# Altium schematic symbol library 6N137S(TA).Schlib: 1 symbol
Pins are listed as number, name and electrical type; pins without a type are passive.

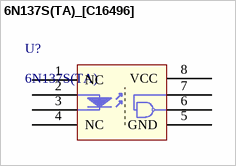
[diagram p0: symbol 6N137S(TA)_[C16496]]

## 6N137S(TA)_[C16496]
designator U?, comment 6N137S(TA)
贴片光耦
footprint SMD-8_6.3mm
pins: 1 NC, 2 A "Anode", 3 K "Cathode", 4 NC, 5 GND, 6 VO, 7 VE, 8 VCC